# EAGLE library part DRV8803 (library arianna)
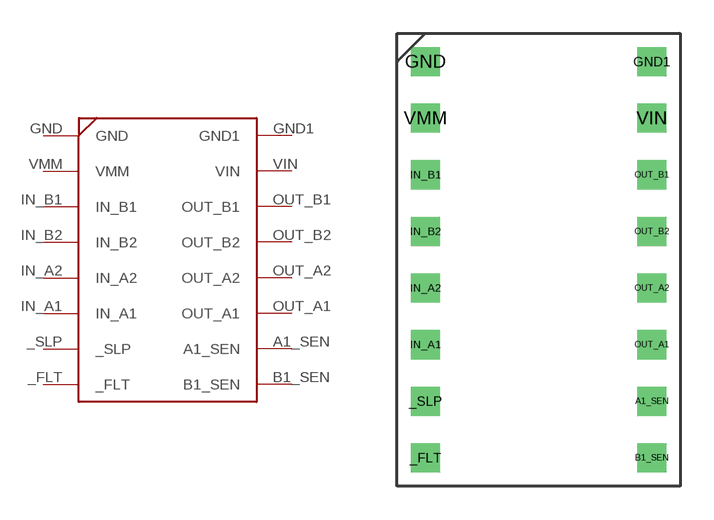
[diagram p0: symbol with the pads of 8X5CARRIER; footprint 8X5CARRIER]

Designator prefix -

## DRV8803  [8X5CARRIER]
_FLT  _FLT
_SLP  _SLP
A1_SEN  A1_SEN
B1_SEN  B1_SEN
GND  GND
GND1  GND1
IN_A1  IN_A1
IN_A2  IN_A2
IN_B1  IN_B1
IN_B2  IN_B2
OUT_A1  OUT_A1
OUT_A2  OUT_A2
OUT_B1  OUT_B1
OUT_B2  OUT_B2
VIN  VIN
VMM  VMM

## Footprint 8X5CARRIER (pad centres in mm)
drill 0.8 square: _FLT -5.08,-8.89; _SLP -5.08,-6.35; A1_SEN 5.08,-6.35; B1_SEN 5.08,-8.89; GND -5.08,8.89; GND1 5.08,8.89; IN_A1 -5.08,-3.81; IN_A2 -5.08,-1.27; IN_B1 -5.08,3.81; IN_B2 -5.08,1.27; OUT_A1 5.08,-3.81; OUT_A2 5.08,-1.27; OUT_B1 5.08,3.81; OUT_B2 5.08,1.27; VIN 5.08,6.35; VMM -5.08,6.35